# EAGLE library part 2X20/90_1MM27_HARWIN_M50-3902042_HEADER (library df4iah_connector)
Header 20X2 1.27mm M50-3902042 Archer, 90°
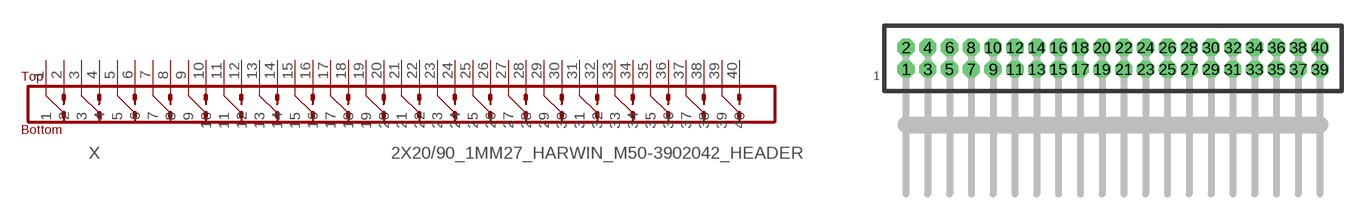
[diagram p21: symbol with the pads of 2X20/90_1MM27_HARWIN_M50-3902042_HEADER; footprint 2X20/90_1MM27_HARWIN_M50-3902042_HEADER]

Designator prefix X

## 2X20/90_1MM27_HARWIN_M50-3902042_HEADER  [2X20/90_1MM27_HARWIN_M50-3902042_HEADER]
1  1  pas
2  2  pas
3  3  pas
4  4  pas
5  5  pas
6  6  pas
7  7  pas
8  8  pas
9  9  pas
10  10  pas
11  11  pas
12  12  pas
13  13  pas
14  14  pas
15  15  pas
16  16  pas
17  17  pas
18  18  pas
19  19  pas
20  20  pas
21  21  pas
22  22  pas
23  23  pas
24  24  pas
25  25  pas
26  26  pas
27  27  pas
28  28  pas
29  29  pas
30  30  pas
31  31  pas
32  32  pas
33  33  pas
34  34  pas
35  35  pas
36  36  pas
37  37  pas
38  38  pas
39  39  pas
40  40  pas

## Footprint 2X20/90_1MM27_HARWIN_M50-3902042_HEADER (pad centres in mm)
Header 20X2 1.27mm M50-3202045 Archer, 90°
drill 0.5 pad 0.762 octagon: 1 -11.43,0; 2 -11.43,1.27; 3 -10.16,0; 4 -10.16,1.27; 5 -8.89,0; 6 -8.89,1.27; 7 -7.62,0; 8 -7.62,1.27; 9 -6.35,0; 10 -6.35,1.27; 11 -5.08,0; 12 -5.08,1.27; 13 -3.81,0; 14 -3.81,1.27; 15 -2.54,0; 16 -2.54,1.27; 17 -1.27,0; 18 -1.27,1.27; 19 0,0; 20 0,1.27; 21 1.27,0; 22 1.27,1.27; 23 2.54,0; 24 2.54,1.27; 25 3.81,0; 26 3.81,1.27; 27 5.08,0; 28 5.08,1.27; 29 6.35,0; 30 6.35,1.27; 31 7.62,0; 32 7.62,1.27; 33 8.89,0; 34 8.89,1.27; 35 10.16,0; 36 10.16,1.27; 37 11.43,0; 38 11.43,1.27; 39 12.7,0; 40 12.7,1.27